# Altium integrated library TI_Logic_Gate.IntLib: 2017 symbols (part 12 of 56)
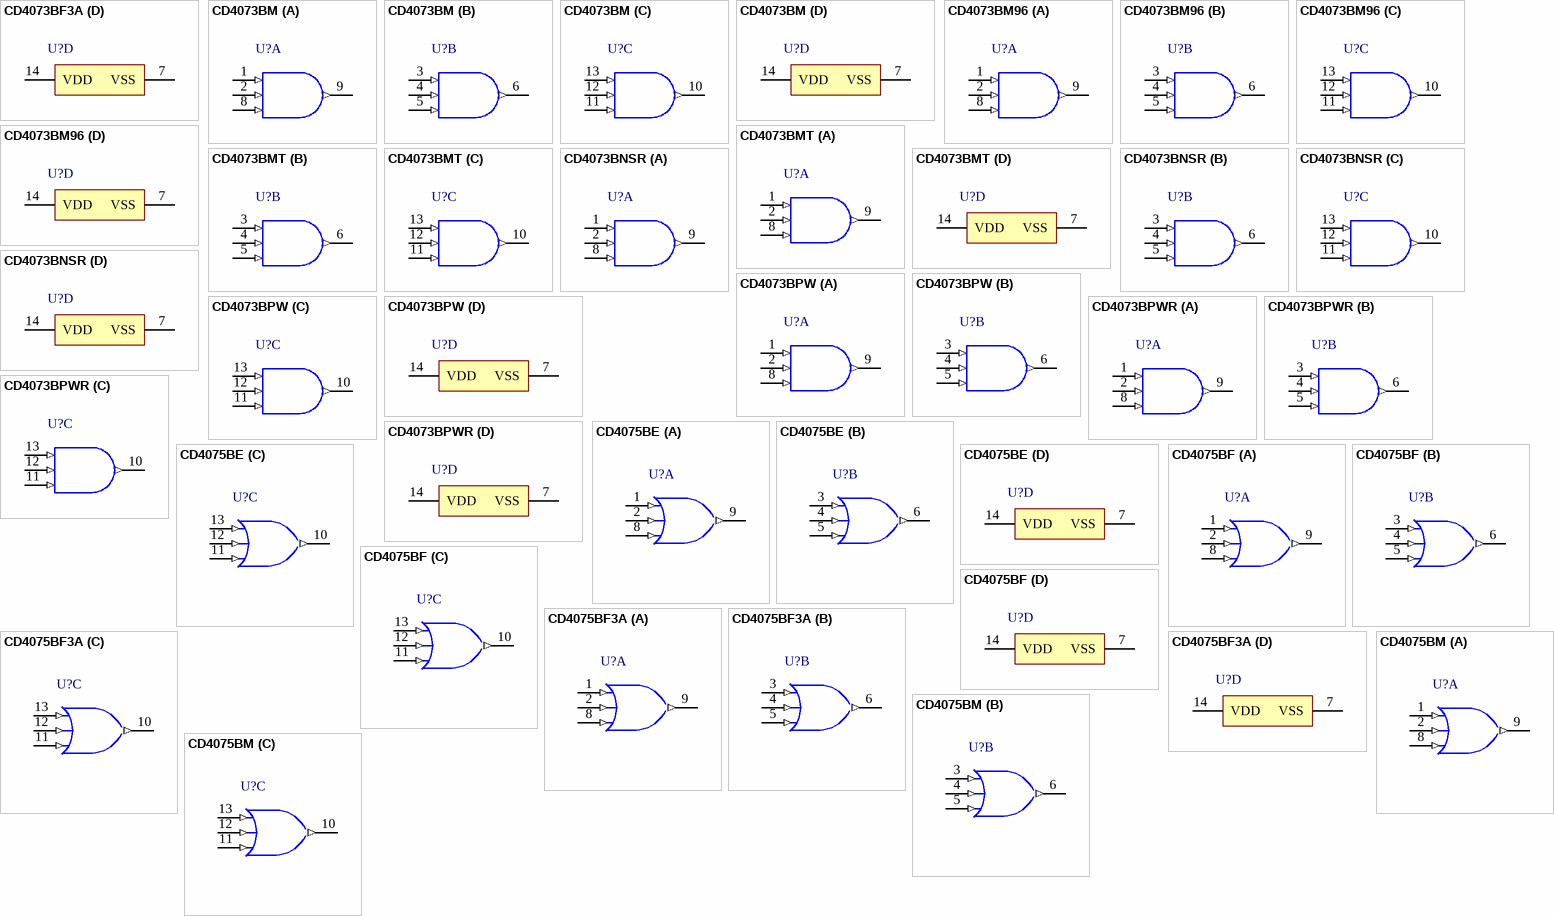
[diagram p236: symbols CD4073BF3A to CD4075BM]

## CD4073BPW
designator U?
CMOS Triple 3-Input AND Gate, PW0014A, TUBE; Generic Part Number: CD4073B; Manufacturer: Texas Instruments; PartNumber: CD4073BPW; VCC(Max)(V): 18; VCC(Min)(V): 3; ICC @ Nom Voltage(Max)(mA): 0.025; F @ Nom Voltage(Max)(Mhz): 8; Rating: Catalog; Technology Family: CD4000; Voltage(Nom)(V): 10; Schmitt Trigger: No; tpd @ Nom Voltage(Max)(ns): 120; DatasheetVersion: SCHS057C; PackageReference: PW0014A; Supplier 1: Mouser; Supplier Part Number 1: 595-CD4073BPW; Supplier 2: Digi-Key; Supplier Part Number 2: 296-32908-5-ND; Output Type: CMOS; Input Type: CMOS; Bits(#): 3; Operating Temperature Range(C): -55 to 125; ComponentLink1Description: Manufacturer URL; ComponentLink1URL: http://www.ti.com/; ComponentLink2Description: Datasheet; ComponentLink2URL: http://www.ti.com/lit/ds/symlink/cd4073b.pdf
footprint PW0014A_N (SOP, 14-Leads, Body 5.1x4.5mm, Pitch 0.65mm, IPC Medium Density)
footprint PW0014A_M (SOP, 14-Leads, Body 5.1x4.5mm, Pitch 0.65mm, IPC Low Density)
footprint PW0014A_L (SOP, 14-Leads, Body 5.1x4.5mm, Pitch 0.65mm, IPC High Density)
part A pins: 1 A (in), 2 B (in), 8 C (in), 9 J (out)
part B pins: 3 D (in), 4 E (in), 5 F (in), 6 K (out)
part C pins: 10 L (out), 11 I (in), 12 H (in), 13 G (in)
part D pins: 7 VSS (power), 14 VDD (power)

## CD4073BPWR
designator U?
CMOS Triple 3-Input AND Gate, PW0014A, LARGE T&R; Generic Part Number: CD4073B; Manufacturer: Texas Instruments; PartNumber: CD4073BPWR; VCC(Max)(V): 18; VCC(Min)(V): 3; ICC @ Nom Voltage(Max)(mA): 0.025; F @ Nom Voltage(Max)(Mhz): 8; Rating: Catalog; Technology Family: CD4000; Voltage(Nom)(V): 10; Schmitt Trigger: No; tpd @ Nom Voltage(Max)(ns): 120; DatasheetVersion: SCHS057C; PackageReference: PW0014A; Supplier 1: Mouser; Supplier Part Number 1: 595-CD4073BPWR; Supplier 2: Digi-Key; Supplier Part Number 2: 296-14134-2-ND; Supplier 3: Digi-Key; Supplier Part Number 3: 296-14134-1-ND; Supplier 4: Digi-Key; Supplier Part Number 4: 296-14134-6-ND; Output Type: CMOS; Input Type: CMOS; Bits(#): 3; Operating Temperature Range(C): -55 to 125; ComponentLink1Description: Manufacturer URL; ComponentLink1URL: http://www.ti.com/; ComponentLink2Description: Datasheet; ComponentLink2URL: http://www.ti.com/lit/ds/symlink/cd4073b.pdf
footprint PW0014A_N (SOP, 14-Leads, Body 5.1x4.5mm, Pitch 0.65mm, IPC Medium Density)
footprint PW0014A_M (SOP, 14-Leads, Body 5.1x4.5mm, Pitch 0.65mm, IPC Low Density)
footprint PW0014A_L (SOP, 14-Leads, Body 5.1x4.5mm, Pitch 0.65mm, IPC High Density)
part A pins: 1 A (in), 2 B (in), 8 C (in), 9 J (out)
part B pins: 3 D (in), 4 E (in), 5 F (in), 6 K (out)
part C pins: 10 L (out), 11 I (in), 12 H (in), 13 G (in)
part D pins: 7 VSS (power), 14 VDD (power)

## CD4075BE
designator U?
CMOS Triple 3-Input OR Gate, N0014A, TUBE; Generic Part Number: CD4075B; Manufacturer: Texas Instruments; PartNumber: CD4075BE; VCC(Min)(V): 3; VCC(Max)(V): 18; ICC @ Nom Voltage(Max)(mA): 0.015; F @ Nom Voltage(Max)(Mhz): 8; Rating: Catalog; Voltage(Nom)(V): 10; Output Drive (IOL/IOH)(Max)(mA): 1.5/-1.5; tpd @ Nom Voltage(Max)(ns): 120; DatasheetVersion: SCHS056D; PackageReference: N0014A; Output Type: CMOS; Input Type: CMOS; Bits(#): 3; Operating Temperature Range(C): -55 to 125; Code_JEDEC: MS-001; ComponentLink1Description: Manufacturer URL; ComponentLink1URL: http://www.ti.com/; ComponentLink2Description: Datasheet; ComponentLink2URL: http://www.ti.com/lit/ds/symlink/cd4075b.pdf; ComponentLink3Description: Package Specification; ComponentLink3URL: http://www.ti.com/lit/ml/mpdi002c/mpdi002c.pdf
footprint N0014A (DIP, 14-Leads, Body 19.7x6.6mm, Pitch 2.54mm)
part A pins: 1 A (in), 2 B (in), 8 C (in), 9 J (out)
part B pins: 3 D (in), 4 E (in), 5 F (in), 6 K (out)
part C pins: 10 L (out), 11 I (in), 12 H (in), 13 G (in)
part D pins: 7 VSS (power), 14 VDD (power)

## CD4075BF
designator U?
CMOS Triple 3-Input OR Gate, J0014A, TUBE; Generic Part Number: CD4075B-MIL; Manufacturer: Texas Instruments; PartNumber: CD4075BF; VCC(Min)(V): 3; VCC(Max)(V): 18; ICC @ Nom Voltage(Max)(mA): 0.015; F @ Nom Voltage(Max)(Mhz): 8; Rating: Military; Voltage(Nom)(V): 10; Output Drive (IOL/IOH)(Max)(mA): 1.5/-1.5; tpd @ Nom Voltage(Max)(ns): 250; DatasheetVersion: SCHS056D; PackageReference: J0014A; Output Type: CMOS; Input Type: CMOS; Bits(#): 3; Operating Temperature Range(C): -55 to 125; ComponentLink1Description: Manufacturer URL; ComponentLink1URL: http://www.ti.com/; ComponentLink2Description: Datasheet; ComponentLink2URL: http://www.ti.com/lit/ds/symlink/cd4075b-mil.pdf; ComponentLink3Description: Package Specification; ComponentLink3URL: http://www.ti.com/lit/ml/mcer002d/mcer002d.pdf
footprint J0014A (DIP, 14-Leads, Body 19.95x7.2mm, Pitch 2.54mm)
part A pins: 1 A (in), 2 B (in), 8 C (in), 9 J (out)
part B pins: 3 D (in), 4 E (in), 5 F (in), 6 K (out)
part C pins: 10 L (out), 11 I (in), 12 H (in), 13 G (in)
part D pins: 7 VSS (power), 14 VDD (power)

## CD4075BF3A
designator U?
CMOS Triple 3-Input OR Gate, J0014A, TUBE; Generic Part Number: CD4075B-MIL; Manufacturer: Texas Instruments; PartNumber: CD4075BF3A; VCC(Min)(V): 3; VCC(Max)(V): 18; ICC @ Nom Voltage(Max)(mA): 0.015; F @ Nom Voltage(Max)(Mhz): 8; Rating: Military; Voltage(Nom)(V): 10; Output Drive (IOL/IOH)(Max)(mA): 1.5/-1.5; tpd @ Nom Voltage(Max)(ns): 250; DatasheetVersion: SCHS056D; PackageReference: J0014A; Output Type: CMOS; Input Type: CMOS; Bits(#): 3; Operating Temperature Range(C): -55 to 125; ComponentLink1Description: Manufacturer URL; ComponentLink1URL: http://www.ti.com/; ComponentLink2Description: Datasheet; ComponentLink2URL: http://www.ti.com/lit/ds/symlink/cd4075b-mil.pdf; ComponentLink3Description: Package Specification; ComponentLink3URL: http://www.ti.com/lit/ml/mcer002d/mcer002d.pdf
footprint J0014A (DIP, 14-Leads, Body 19.95x7.2mm, Pitch 2.54mm)
part A pins: 1 A (in), 2 B (in), 8 C (in), 9 J (out)
part B pins: 3 D (in), 4 E (in), 5 F (in), 6 K (out)
part C pins: 10 L (out), 11 I (in), 12 H (in), 13 G (in)
part D pins: 7 VSS (power), 14 VDD (power)

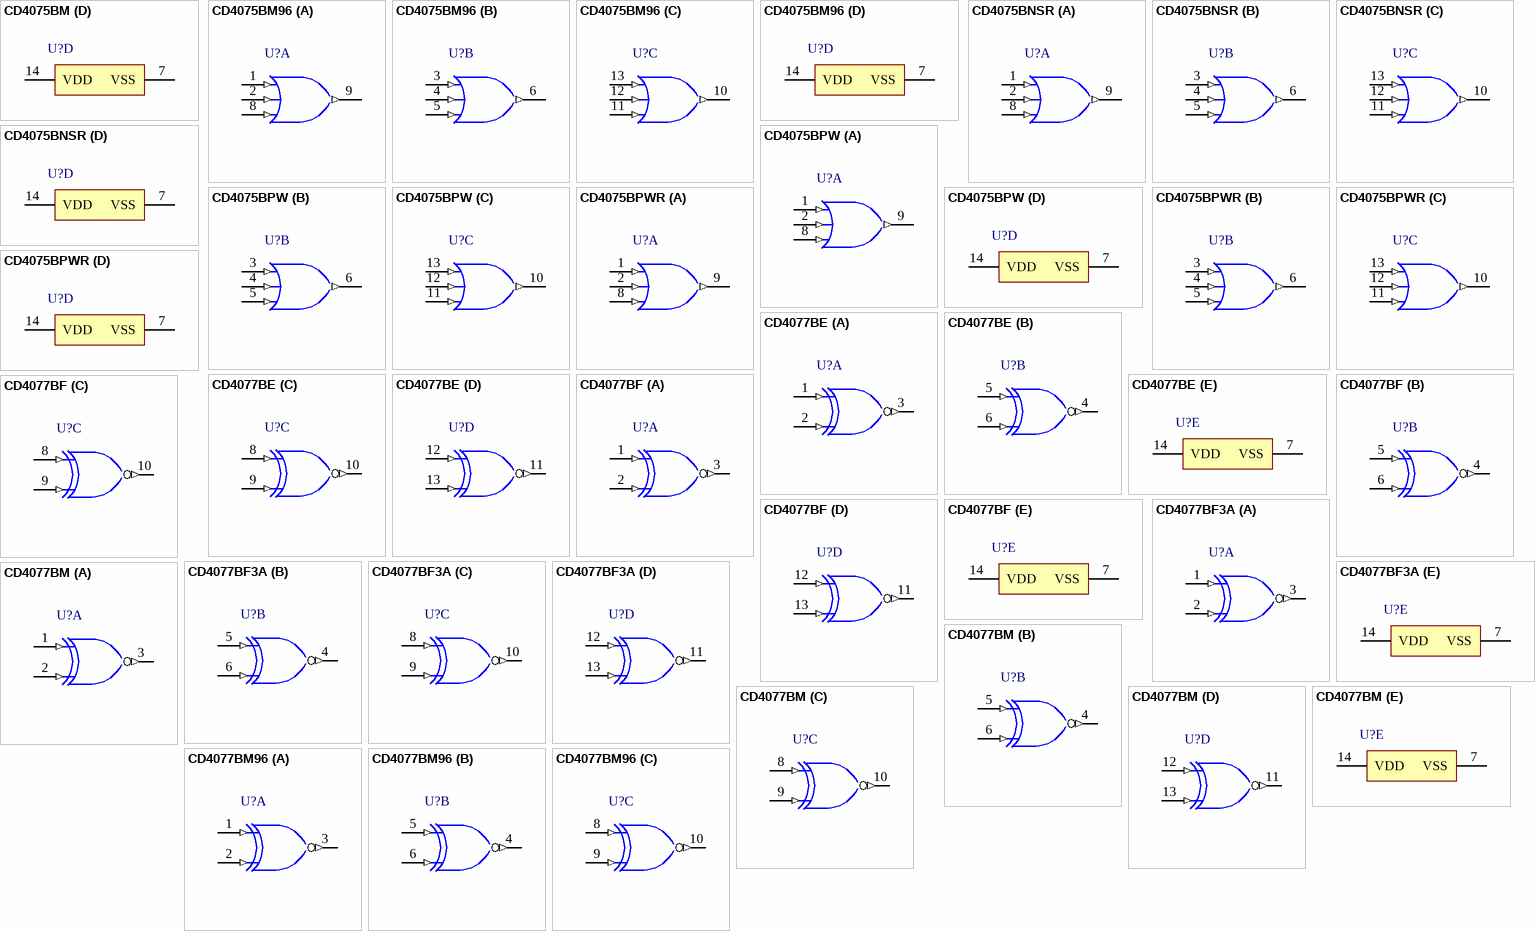
[diagram p44: symbols CD4075BM to CD4077BM96]

## CD4075BM
designator U?
CMOS Triple 3-Input OR Gate, D0014A, TUBE; Generic Part Number: CD4075B; Manufacturer: Texas Instruments; PartNumber: CD4075BM; VCC(Min)(V): 3; VCC(Max)(V): 18; ICC @ Nom Voltage(Max)(mA): 0.015; F @ Nom Voltage(Max)(Mhz): 8; Rating: Catalog; Voltage(Nom)(V): 10; Output Drive (IOL/IOH)(Max)(mA): 1.5/-1.5; tpd @ Nom Voltage(Max)(ns): 120; DatasheetVersion: SCHS056D; PackageReference: D0014A; Output Type: CMOS; Input Type: CMOS; Bits(#): 3; Operating Temperature Range(C): -55 to 125; Code_JEDEC: MS-012; ComponentLink1Description: Manufacturer URL; ComponentLink1URL: http://www.ti.com/; ComponentLink2Description: Datasheet; ComponentLink2URL: http://www.ti.com/lit/ds/symlink/cd4075b.pdf; ComponentLink3Description: Package Specification; ComponentLink3URL: http://www.ti.com/lit/ml/mpds177g/mpds177g.pdf
footprint D0014A_N (SOIC, 14-Leads, Body 8.75x4mm, Pitch 1.27mm, IPC Medium Density)
footprint D0014A_M (SOIC, 14-Leads, Body 8.75x4mm, Pitch 1.27mm, IPC Low Density)
footprint D0014A_L (SOIC, 14-Leads, Body 8.75x4mm, Pitch 1.27mm, IPC High Density)
part A pins: 1 A (in), 2 B (in), 8 C (in), 9 J (out)
part B pins: 3 D (in), 4 E (in), 5 F (in), 6 K (out)
part C pins: 10 L (out), 11 I (in), 12 H (in), 13 G (in)
part D pins: 7 VSS (power), 14 VDD (power)

## CD4075BM96
designator U?
CMOS Triple 3-Input OR Gate, D0014A, LARGE T&R; Generic Part Number: CD4075B; Manufacturer: Texas Instruments; PartNumber: CD4075BM96; VCC(Min)(V): 3; VCC(Max)(V): 18; ICC @ Nom Voltage(Max)(mA): 0.015; F @ Nom Voltage(Max)(Mhz): 8; Rating: Catalog; Voltage(Nom)(V): 10; Output Drive (IOL/IOH)(Max)(mA): 1.5/-1.5; tpd @ Nom Voltage(Max)(ns): 120; DatasheetVersion: SCHS056D; PackageReference: D0014A; Output Type: CMOS; Input Type: CMOS; Bits(#): 3; Operating Temperature Range(C): -55 to 125; Code_JEDEC: MS-012; ComponentLink1Description: Manufacturer URL; ComponentLink1URL: http://www.ti.com/; ComponentLink2Description: Datasheet; ComponentLink2URL: http://www.ti.com/lit/ds/symlink/cd4075b.pdf; ComponentLink3Description: Package Specification; ComponentLink3URL: http://www.ti.com/lit/ml/mpds177g/mpds177g.pdf
footprint D0014A_N (SOIC, 14-Leads, Body 8.75x4mm, Pitch 1.27mm, IPC Medium Density)
footprint D0014A_M (SOIC, 14-Leads, Body 8.75x4mm, Pitch 1.27mm, IPC Low Density)
footprint D0014A_L (SOIC, 14-Leads, Body 8.75x4mm, Pitch 1.27mm, IPC High Density)
part A pins: 1 A (in), 2 B (in), 8 C (in), 9 J (out)
part B pins: 3 D (in), 4 E (in), 5 F (in), 6 K (out)
part C pins: 10 L (out), 11 I (in), 12 H (in), 13 G (in)
part D pins: 7 VSS (power), 14 VDD (power)

## CD4075BNSR
designator U?
CMOS Triple 3-Input OR Gate, NS0014A, LARGE T&R; Generic Part Number: CD4075B; Manufacturer: Texas Instruments; PartNumber: CD4075BNSR; VCC(Min)(V): 3; VCC(Max)(V): 18; ICC @ Nom Voltage(Max)(mA): 0.015; F @ Nom Voltage(Max)(Mhz): 8; Rating: Catalog; Voltage(Nom)(V): 10; Output Drive (IOL/IOH)(Max)(mA): 1.5/-1.5; tpd @ Nom Voltage(Max)(ns): 120; DatasheetVersion: SCHS056D; PackageReference: NS0014A; Output Type: CMOS; Input Type: CMOS; Bits(#): 3; Operating Temperature Range(C): -55 to 125; ComponentLink1Description: Manufacturer URL; ComponentLink1URL: http://www.ti.com/; ComponentLink2Description: Datasheet; ComponentLink2URL: http://www.ti.com/lit/ds/symlink/cd4075b.pdf; ComponentLink3Description: Package Specification; ComponentLink3URL: http://www.ti.com/lit/ml/msop002a/msop002a.pdf
footprint NS0014A_N (SOIC,14-Leads,Body 10.5x5.6mm,Pitch 1.27mm,IPC Medium Density)
footprint NS0014A_M (SOIC,14-Leads,Body 10.5x5.6mm,Pitch 1.27mm,IPC Low Density)
footprint NS0014A_L (SOIC,14-Leads,Body 10.5x5.6mm,Pitch 0.4mm,IPC High Density)
part A pins: 1 A (in), 2 B (in), 8 C (in), 9 J (out)
part B pins: 3 D (in), 4 E (in), 5 F (in), 6 K (out)
part C pins: 10 L (out), 11 I (in), 12 H (in), 13 G (in)
part D pins: 7 VSS (power), 14 VDD (power)

## CD4075BPW
designator U?
CMOS Triple 3-Input OR Gate, PW0014A, TUBE; Generic Part Number: CD4075B; Manufacturer: Texas Instruments; PartNumber: CD4075BPW; VCC(Min)(V): 3; VCC(Max)(V): 18; ICC @ Nom Voltage(Max)(mA): 0.015; F @ Nom Voltage(Max)(Mhz): 8; Rating: Catalog; Voltage(Nom)(V): 10; Output Drive (IOL/IOH)(Max)(mA): 1.5/-1.5; tpd @ Nom Voltage(Max)(ns): 120; DatasheetVersion: SCHS056D; PackageReference: PW0014A; Output Type: CMOS; Input Type: CMOS; Bits(#): 3; Operating Temperature Range(C): -55 to 125; Code_JEDEC: MO-153; ComponentLink1Description: Manufacturer URL; ComponentLink1URL: http://www.ti.com/; ComponentLink2Description: Datasheet; ComponentLink2URL: http://www.ti.com/lit/ds/symlink/cd4075b.pdf; ComponentLink3Description: Package Specification; ComponentLink3URL: http://www.ti.com/lit/ml/mpds360/mpds360.pdf
footprint PW0014A_N (SOP, 14-Leads, Body 5.1x4.5mm, Pitch 0.65mm, IPC Medium Density)
footprint PW0014A_M (SOP, 14-Leads, Body 5.1x4.5mm, Pitch 0.65mm, IPC Low Density)
footprint PW0014A_L (SOP, 14-Leads, Body 5.1x4.5mm, Pitch 0.65mm, IPC High Density)
part A pins: 1 A (in), 2 B (in), 8 C (in), 9 J (out)
part B pins: 3 D (in), 4 E (in), 5 F (in), 6 K (out)
part C pins: 10 L (out), 11 I (in), 12 H (in), 13 G (in)
part D pins: 7 VSS (power), 14 VDD (power)

## CD4075BPWR
designator U?
CMOS Triple 3-Input OR Gate, PW0014A, LARGE T&R; Generic Part Number: CD4075B; Manufacturer: Texas Instruments; PartNumber: CD4075BPWR; VCC(Min)(V): 3; VCC(Max)(V): 18; ICC @ Nom Voltage(Max)(mA): 0.015; F @ Nom Voltage(Max)(Mhz): 8; Rating: Catalog; Voltage(Nom)(V): 10; Output Drive (IOL/IOH)(Max)(mA): 1.5/-1.5; tpd @ Nom Voltage(Max)(ns): 120; DatasheetVersion: SCHS056D; PackageReference: PW0014A; Output Type: CMOS; Input Type: CMOS; Bits(#): 3; Operating Temperature Range(C): -55 to 125; Code_JEDEC: MO-153; ComponentLink1Description: Manufacturer URL; ComponentLink1URL: http://www.ti.com/; ComponentLink2Description: Datasheet; ComponentLink2URL: http://www.ti.com/lit/ds/symlink/cd4075b.pdf; ComponentLink3Description: Package Specification; ComponentLink3URL: http://www.ti.com/lit/ml/mpds360/mpds360.pdf
footprint PW0014A_N (SOP, 14-Leads, Body 5.1x4.5mm, Pitch 0.65mm, IPC Medium Density)
footprint PW0014A_M (SOP, 14-Leads, Body 5.1x4.5mm, Pitch 0.65mm, IPC Low Density)
footprint PW0014A_L (SOP, 14-Leads, Body 5.1x4.5mm, Pitch 0.65mm, IPC High Density)
part A pins: 1 A (in), 2 B (in), 8 C (in), 9 J (out)
part B pins: 3 D (in), 4 E (in), 5 F (in), 6 K (out)
part C pins: 10 L (out), 11 I (in), 12 H (in), 13 G (in)
part D pins: 7 VSS (power), 14 VDD (power)

## CD4077BE
designator U?
CMOS Quad Exclusive-NOR Gate, N0014A, TUBE; Generic Part Number: CD4077B; Manufacturer: Texas Instruments; PartNumber: CD4077BE; VCC(Max)(V): 18; VCC(Min)(V): 3; Output Drive(mA): -6.8/6.8; ICC @ Nom Voltage(Max)(mA): 0.015; Bits(#): 4; F @ Nom Voltage(Max)(Mhz): 9; Rating: Catalog; Technology Family: CD4000; Voltage(Nom)(V): 10; Schmitt Trigger: No; tpd @ Nom Voltage(Max)(ns): 130; DatasheetVersion: SCHS055E; PackageReference: N0014A; Supplier 1: Mouser; Supplier Part Number 1: 595-CD4077BE; Supplier 2: Digi-Key; Supplier Part Number 2: 296-13771-5-ND; Output Type: CMOS; Input Type: CMOS; Operating Temperature Range(C): -55 to 125; Output Drive (IOL/IOH)(Max)(mA): -6.8/6.8; ComponentLink1Description: Manufacturer URL; ComponentLink1URL: http://www.ti.com/; ComponentLink2Description: Datasheet; ComponentLink2URL: http://www.ti.com/lit/ds/symlink/cd4077b.pdf
footprint N0014A (DIP, 14-Leads, Body 19.7x6.6mm, Pitch 2.54mm)
part A pins: 1 A (in), 2 B (in), 3 J (out)
part B pins: 4 K (out), 5 C (in), 6 D (in)
part C pins: 8 E (in), 9 F (in), 10 L (out)
part D pins: 11 M (out), 12 G (in), 13 H (in)
part E pins: 7 VSS (power), 14 VDD (power)

## CD4077BF
designator U?
CMOS Quad Exclusive-NOR Gate, J0014A, TUBE; Generic Part Number: CD4077B-MIL; Manufacturer: Texas Instruments; PartNumber: CD4077BF; VCC(Max)(V): 18; VCC(Min)(V): 3; Output Drive(mA): -6.8/6.8; ICC @ Nom Voltage(Max)(mA): 0.015; Bits(#): 4; F @ Nom Voltage(Max)(Mhz): 9; Rating: Military; Technology Family: CD4000; Voltage(Nom)(V): 10; Schmitt Trigger: No; tpd @ Nom Voltage(Max)(ns): 130; DatasheetVersion: SCHS055E; PackageReference: J0014A; Output Type: CMOS; Input Type: CMOS; Operating Temperature Range(C): -55 to 125; ComponentLink1Description: Manufacturer URL; ComponentLink1URL: http://www.ti.com/; ComponentLink2Description: Datasheet; ComponentLink2URL: http://www.ti.com/lit/ds/symlink/cd4077b-mil.pdf
footprint J0014A (DIP, 14-Leads, Body 19.95x7.2mm, Pitch 2.54mm)
part A pins: 1 A (in), 2 B (in), 3 J (out)
part B pins: 4 K (out), 5 C (in), 6 D (in)
part C pins: 8 E (in), 9 F (in), 10 L (out)
part D pins: 11 M (out), 12 G (in), 13 H (in)
part E pins: 7 VSS (power), 14 VDD (power)

## CD4077BF3A
designator U?
CMOS Quad Exclusive-NOR Gate, J0014A, TUBE; Generic Part Number: CD4077B-MIL; Manufacturer: Texas Instruments; PartNumber: CD4077BF3A; VCC(Max)(V): 18; VCC(Min)(V): 3; Output Drive(mA): -6.8/6.8; ICC @ Nom Voltage(Max)(mA): 0.015; Bits(#): 4; F @ Nom Voltage(Max)(Mhz): 9; Rating: Military; Technology Family: CD4000; Voltage(Nom)(V): 10; Schmitt Trigger: No; tpd @ Nom Voltage(Max)(ns): 130; DatasheetVersion: SCHS055E; PackageReference: J0014A; Output Type: CMOS; Input Type: CMOS; Operating Temperature Range(C): -55 to 125; ComponentLink1Description: Manufacturer URL; ComponentLink1URL: http://www.ti.com/; ComponentLink2Description: Datasheet; ComponentLink2URL: http://www.ti.com/lit/ds/symlink/cd4077b-mil.pdf
footprint J0014A (DIP, 14-Leads, Body 19.95x7.2mm, Pitch 2.54mm)
part A pins: 1 A (in), 2 B (in), 3 J (out)
part B pins: 4 K (out), 5 C (in), 6 D (in)
part C pins: 8 E (in), 9 F (in), 10 L (out)
part D pins: 11 M (out), 12 G (in), 13 H (in)
part E pins: 7 VSS (power), 14 VDD (power)

## CD4077BM
designator U?
CMOS Quad Exclusive-NOR Gate, D0014A, TUBE; Generic Part Number: CD4077B; Manufacturer: Texas Instruments; PartNumber: CD4077BM; VCC(Max)(V): 18; VCC(Min)(V): 3; Output Drive(mA): -6.8/6.8; ICC @ Nom Voltage(Max)(mA): 0.015; Bits(#): 4; F @ Nom Voltage(Max)(Mhz): 9; Rating: Catalog; Technology Family: CD4000; Voltage(Nom)(V): 10; Schmitt Trigger: No; tpd @ Nom Voltage(Max)(ns): 130; DatasheetVersion: SCHS055E; PackageReference: D0014A; Supplier 1: Mouser; Supplier Part Number 1: 595-CD4077BM; Supplier 2: Digi-Key; Supplier Part Number 2: 296-9406-5-ND; Output Type: CMOS; Input Type: CMOS; Operating Temperature Range(C): -55 to 125; Output Drive (IOL/IOH)(Max)(mA): -6.8/6.8; ComponentLink1Description: Manufacturer URL; ComponentLink1URL: http://www.ti.com/; ComponentLink2Description: Datasheet; ComponentLink2URL: http://www.ti.com/lit/ds/symlink/cd4077b.pdf
footprint D0014A_N (SOIC, 14-Leads, Body 8.75x4mm, Pitch 1.27mm, IPC Medium Density)
footprint D0014A_M (SOIC, 14-Leads, Body 8.75x4mm, Pitch 1.27mm, IPC Low Density)
footprint D0014A_L (SOIC, 14-Leads, Body 8.75x4mm, Pitch 1.27mm, IPC High Density)
part A pins: 1 A (in), 2 B (in), 3 J (out)
part B pins: 4 K (out), 5 C (in), 6 D (in)
part C pins: 8 E (in), 9 F (in), 10 L (out)
part D pins: 11 M (out), 12 G (in), 13 H (in)
part E pins: 7 VSS (power), 14 VDD (power)

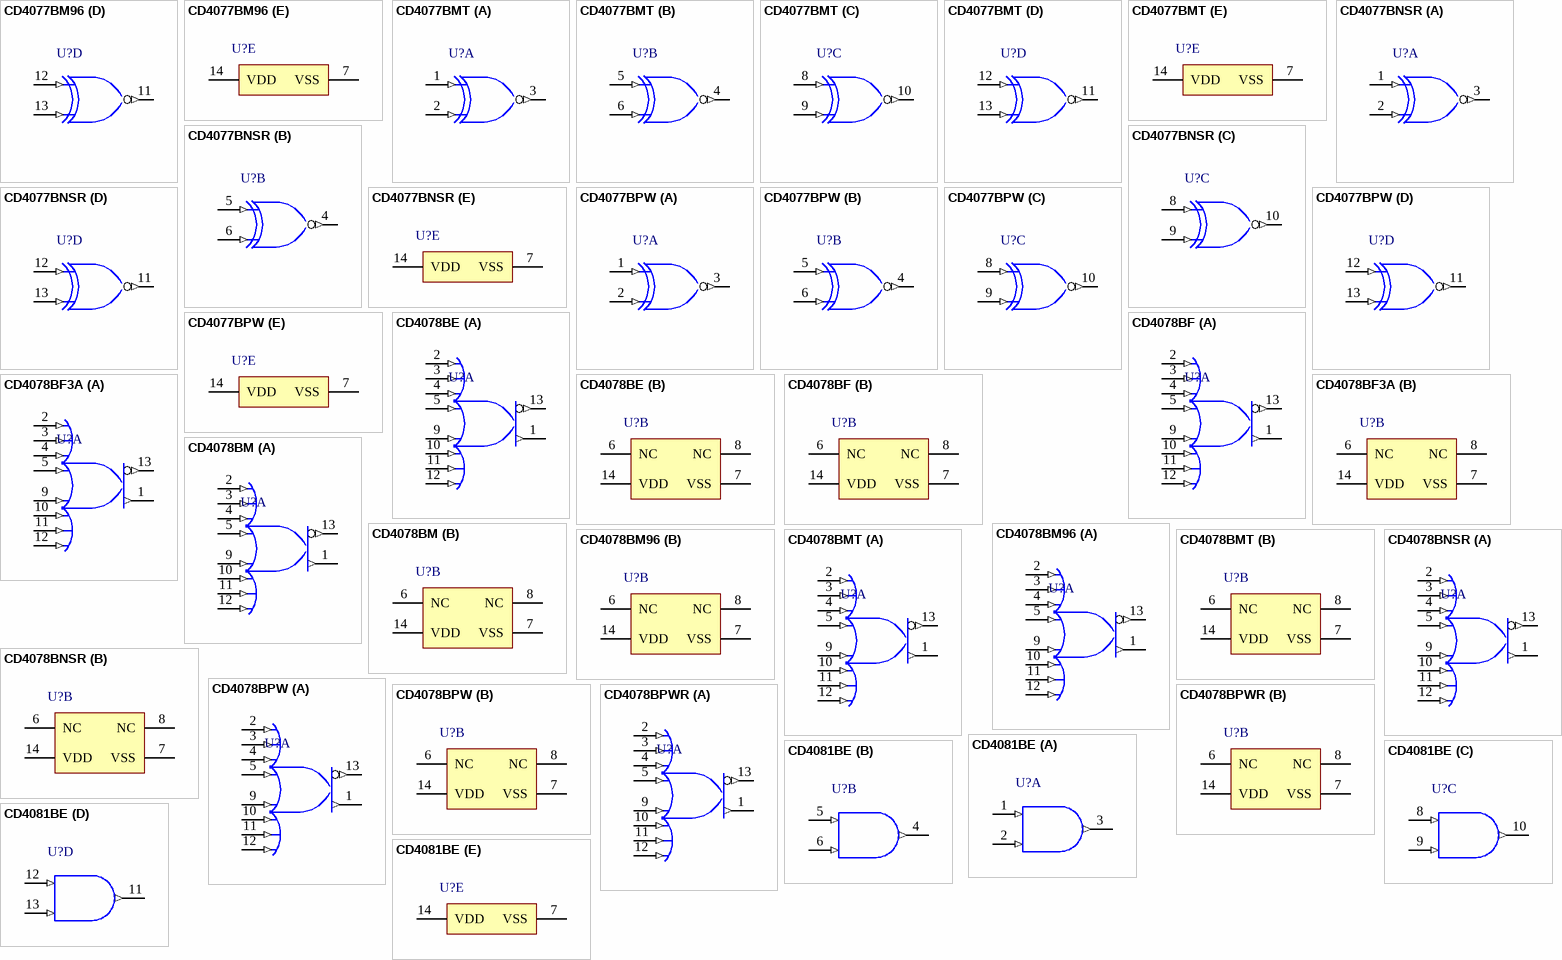
[diagram p45: symbols CD4077BM96 to CD4081BE]

## CD4077BM96
designator U?
CMOS Quad Exclusive-NOR Gate, D0014A, LARGE T&R; Generic Part Number: CD4077B; Manufacturer: Texas Instruments; PartNumber: CD4077BM96; VCC(Max)(V): 18; VCC(Min)(V): 3; Output Drive(mA): -6.8/6.8; ICC @ Nom Voltage(Max)(mA): 0.015; Bits(#): 4; F @ Nom Voltage(Max)(Mhz): 9; Rating: Catalog; Technology Family: CD4000; Voltage(Nom)(V): 10; Schmitt Trigger: No; tpd @ Nom Voltage(Max)(ns): 130; DatasheetVersion: SCHS055E; PackageReference: D0014A; Supplier 1: Mouser; Supplier Part Number 1: 595-CD4077BM96; Supplier 2: Digi-Key; Supplier Part Number 2: 296-31521-2-ND; Supplier 3: Digi-Key; Supplier Part Number 3: 296-31521-1-ND; Supplier 4: Digi-Key; Supplier Part Number 4: 296-31521-6-ND; Output Type: CMOS; Input Type: CMOS; Operating Temperature Range(C): -55 to 125; Output Drive (IOL/IOH)(Max)(mA): -6.8/6.8; ComponentLink1Description: Manufacturer URL; ComponentLink1URL: http://www.ti.com/; ComponentLink2Description: Datasheet; ComponentLink2URL: http://www.ti.com/lit/ds/symlink/cd4077b.pdf
footprint D0014A_N (SOIC, 14-Leads, Body 8.75x4mm, Pitch 1.27mm, IPC Medium Density)
footprint D0014A_M (SOIC, 14-Leads, Body 8.75x4mm, Pitch 1.27mm, IPC Low Density)
footprint D0014A_L (SOIC, 14-Leads, Body 8.75x4mm, Pitch 1.27mm, IPC High Density)
part A pins: 1 A (in), 2 B (in), 3 J (out)
part B pins: 4 K (out), 5 C (in), 6 D (in)
part C pins: 8 E (in), 9 F (in), 10 L (out)
part D pins: 11 M (out), 12 G (in), 13 H (in)
part E pins: 7 VSS (power), 14 VDD (power)

## CD4077BMT
designator U?
CMOS Quad Exclusive-NOR Gate, D0014A, SMALL T&R; Generic Part Number: CD4077B; Manufacturer: Texas Instruments; PartNumber: CD4077BMT; VCC(Max)(V): 18; VCC(Min)(V): 3; Output Drive(mA): -6.8/6.8; ICC @ Nom Voltage(Max)(mA): 0.015; Bits(#): 4; F @ Nom Voltage(Max)(Mhz): 9; Rating: Catalog; Technology Family: CD4000; Voltage(Nom)(V): 10; Schmitt Trigger: No; tpd @ Nom Voltage(Max)(ns): 130; DatasheetVersion: SCHS055E; PackageReference: D0014A; Supplier 1: Mouser; Supplier Part Number 1: 595-CD4077BMT; Supplier 2: Digi-Key; Supplier Part Number 2: CD4077BMT-ND; Output Type: CMOS; Input Type: CMOS; Operating Temperature Range(C): -55 to 125; Output Drive (IOL/IOH)(Max)(mA): -6.8/6.8; ComponentLink1Description: Manufacturer URL; ComponentLink1URL: http://www.ti.com/; ComponentLink2Description: Datasheet; ComponentLink2URL: http://www.ti.com/lit/ds/symlink/cd4077b.pdf
footprint D0014A_N (SOIC, 14-Leads, Body 8.75x4mm, Pitch 1.27mm, IPC Medium Density)
footprint D0014A_M (SOIC, 14-Leads, Body 8.75x4mm, Pitch 1.27mm, IPC Low Density)
footprint D0014A_L (SOIC, 14-Leads, Body 8.75x4mm, Pitch 1.27mm, IPC High Density)
part A pins: 1 A (in), 2 B (in), 3 J (out)
part B pins: 4 K (out), 5 C (in), 6 D (in)
part C pins: 8 E (in), 9 F (in), 10 L (out)
part D pins: 11 M (out), 12 G (in), 13 H (in)
part E pins: 7 VSS (power), 14 VDD (power)

## CD4077BNSR
designator U?
CMOS Quad Exclusive-NOR Gate, NS0014A, LARGE T&R; Generic Part Number: CD4077B; Manufacturer: Texas Instruments; PartNumber: CD4077BNSR; VCC(Max)(V): 18; VCC(Min)(V): 3; Output Drive(mA): -6.8/6.8; ICC @ Nom Voltage(Max)(mA): 0.015; Bits(#): 4; F @ Nom Voltage(Max)(Mhz): 9; Rating: Catalog; Technology Family: CD4000; Voltage(Nom)(V): 10; Schmitt Trigger: No; tpd @ Nom Voltage(Max)(ns): 130; DatasheetVersion: SCHS055E; PackageReference: NS0014A; Supplier 1: Mouser; Supplier Part Number 1: 595-CD4077BNSR; Supplier 2: Digi-Key; Supplier Part Number 2: 296-31522-2-ND; Supplier 3: Digi-Key; Supplier Part Number 3: 296-31522-1-ND; Supplier 4: Digi-Key; Supplier Part Number 4: 296-31522-6-ND; Output Type: CMOS; Input Type: CMOS; Operating Temperature Range(C): -55 to 125; Output Drive (IOL/IOH)(Max)(mA): -6.8/6.8; ComponentLink1Description: Manufacturer URL; ComponentLink1URL: http://www.ti.com/; ComponentLink2Description: Datasheet; ComponentLink2URL: http://www.ti.com/lit/ds/symlink/cd4077b.pdf
footprint NS0014A_N (SOIC,14-Leads,Body 10.5x5.6mm,Pitch 1.27mm,IPC Medium Density)
footprint NS0014A_M (SOIC,14-Leads,Body 10.5x5.6mm,Pitch 1.27mm,IPC Low Density)
footprint NS0014A_L (SOIC,14-Leads,Body 10.5x5.6mm,Pitch 0.4mm,IPC High Density)
part A pins: 1 A (in), 2 B (in), 3 J (out)
part B pins: 4 K (out), 5 C (in), 6 D (in)
part C pins: 8 E (in), 9 F (in), 10 L (out)
part D pins: 11 M (out), 12 G (in), 13 H (in)
part E pins: 7 VSS (power), 14 VDD (power)

## CD4077BPW
designator U?
CMOS Quad Exclusive-NOR Gate, PW0014A, TUBE; Generic Part Number: CD4077B; Manufacturer: Texas Instruments; PartNumber: CD4077BPW; VCC(Max)(V): 18; VCC(Min)(V): 3; Output Drive(mA): -6.8/6.8; ICC @ Nom Voltage(Max)(mA): 0.015; Bits(#): 4; F @ Nom Voltage(Max)(Mhz): 9; Rating: Catalog; Technology Family: CD4000; Voltage(Nom)(V): 10; Schmitt Trigger: No; tpd @ Nom Voltage(Max)(ns): 130; DatasheetVersion: SCHS055E; PackageReference: PW0014A; Supplier 1: Mouser; Supplier Part Number 1: 595-CD4077BPW; Supplier 2: Digi-Key; Supplier Part Number 2: CD4077BPW-ND; Output Type: CMOS; Input Type: CMOS; Operating Temperature Range(C): -55 to 125; Output Drive (IOL/IOH)(Max)(mA): -6.8/6.8; ComponentLink1Description: Manufacturer URL; ComponentLink1URL: http://www.ti.com/; ComponentLink2Description: Datasheet; ComponentLink2URL: http://www.ti.com/lit/ds/symlink/cd4077b.pdf
footprint PW0014A_N (SOP, 14-Leads, Body 5.1x4.5mm, Pitch 0.65mm, IPC Medium Density)
footprint PW0014A_M (SOP, 14-Leads, Body 5.1x4.5mm, Pitch 0.65mm, IPC Low Density)
footprint PW0014A_L (SOP, 14-Leads, Body 5.1x4.5mm, Pitch 0.65mm, IPC High Density)
part A pins: 1 A (in), 2 B (in), 3 J (out)
part B pins: 4 K (out), 5 C (in), 6 D (in)
part C pins: 8 E (in), 9 F (in), 10 L (out)
part D pins: 11 M (out), 12 G (in), 13 H (in)
part E pins: 7 VSS (power), 14 VDD (power)

## CD4078BE
designator U?
CMOS 8-Input NOR/OR Gate, N0014A, TUBE; Generic Part Number: CD4078B; Manufacturer: Texas Instruments; PartNumber: CD4078BE; VCC(Min)(V): 3; VCC(Max)(V): 18; Bits(#): 1; Rating: Catalog; tpd @ Nom Voltage(Max)(ns): 150; ICC @ Nom Voltage(Max)(mA): 0.015; F @ Nom Voltage(Max)(Mhz): 8; Voltage(Nom)(V): 10; Output Drive (IOL/IOH)(Max)(mA): 1.5/-1.5; DatasheetVersion: SCHS059C; PackageReference: N0014A; Output Type: CMOS; Input Type: CMOS; Operating Temperature Range(C): -55 to 125; Code_JEDEC: MS-001; ComponentLink1Description: Manufacturer URL; ComponentLink1URL: http://www.ti.com/; ComponentLink2Description: Datasheet; ComponentLink2URL: http://www.ti.com/lit/ds/symlink/cd4078b.pdf; ComponentLink3Description: Package Specification; ComponentLink3URL: http://www.ti.com/lit/ml/mpdi002c/mpdi002c.pdf
footprint N0014A (DIP, 14-Leads, Body 19.7x6.6mm, Pitch 2.54mm)
part A pins: 1 K (out), 2 A (in), 3 B (in), 4 C (in), 5 D (in), 9 E (in), 10 F (in), 11 G (in), 12 H (in), 13 J (out)
part B pins: 6 NC, 7 VSS (power), 8 NC, 14 VDD (power)

## CD4078BF
designator U?
CMOS 8-Input NOR/OR Gate, J0014A, TUBE; Generic Part Number: CD4078B-MIL; Manufacturer: Texas Instruments; PartNumber: CD4078BF; VCC(Min)(V): 3; VCC(Max)(V): 18; Bits(#): 1; Rating: Military; tpd @ Nom Voltage(Max)(ns): 300; ICC @ Nom Voltage(Max)(mA): 0.015; F @ Nom Voltage(Max)(Mhz): 8; Voltage(Nom)(V): 10; Output Drive (IOL/IOH)(Max)(mA): 1.5/-1.5; DatasheetVersion: SCHS059C; PackageReference: J0014A; Output Type: CMOS; Input Type: CMOS; Operating Temperature Range(C): -55 to 125; ComponentLink1Description: Manufacturer URL; ComponentLink1URL: http://www.ti.com/; ComponentLink2Description: Datasheet; ComponentLink2URL: http://www.ti.com/lit/ds/symlink/cd4078b-mil.pdf; ComponentLink3Description: Package Specification; ComponentLink3URL: http://www.ti.com/lit/ml/mcer002d/mcer002d.pdf
footprint J0014A (DIP, 14-Leads, Body 19.95x7.2mm, Pitch 2.54mm)
part A pins: 1 K (out), 2 A (in), 3 B (in), 4 C (in), 5 D (in), 9 E (in), 10 F (in), 11 G (in), 12 H (in), 13 J (out)
part B pins: 6 NC, 7 VSS (power), 8 NC, 14 VDD (power)

## CD4078BF3A
designator U?
CMOS 8-Input NOR/OR Gate, J0014A, TUBE; Generic Part Number: CD4078B-MIL; Manufacturer: Texas Instruments; PartNumber: CD4078BF3A; VCC(Min)(V): 3; VCC(Max)(V): 18; Bits(#): 1; Rating: Military; tpd @ Nom Voltage(Max)(ns): 300; ICC @ Nom Voltage(Max)(mA): 0.015; F @ Nom Voltage(Max)(Mhz): 8; Voltage(Nom)(V): 10; Output Drive (IOL/IOH)(Max)(mA): 1.5/-1.5; DatasheetVersion: SCHS059C; PackageReference: J0014A; Output Type: CMOS; Input Type: CMOS; Operating Temperature Range(C): -55 to 125; ComponentLink1Description: Manufacturer URL; ComponentLink1URL: http://www.ti.com/; ComponentLink2Description: Datasheet; ComponentLink2URL: http://www.ti.com/lit/ds/symlink/cd4078b-mil.pdf; ComponentLink3Description: Package Specification; ComponentLink3URL: http://www.ti.com/lit/ml/mcer002d/mcer002d.pdf
footprint J0014A (DIP, 14-Leads, Body 19.95x7.2mm, Pitch 2.54mm)
part A pins: 1 K (out), 2 A (in), 3 B (in), 4 C (in), 5 D (in), 9 E (in), 10 F (in), 11 G (in), 12 H (in), 13 J (out)
part B pins: 6 NC, 7 VSS (power), 8 NC, 14 VDD (power)

## CD4078BM
designator U?
CMOS 8-Input NOR/OR Gate, D0014A, TUBE; Generic Part Number: CD4078B; Manufacturer: Texas Instruments; PartNumber: CD4078BM; VCC(Min)(V): 3; VCC(Max)(V): 18; Bits(#): 1; Rating: Catalog; tpd @ Nom Voltage(Max)(ns): 150; ICC @ Nom Voltage(Max)(mA): 0.015; F @ Nom Voltage(Max)(Mhz): 8; Voltage(Nom)(V): 10; Output Drive (IOL/IOH)(Max)(mA): 1.5/-1.5; DatasheetVersion: SCHS059C; PackageReference: D0014A; Output Type: CMOS; Input Type: CMOS; Operating Temperature Range(C): -55 to 125; Code_JEDEC: MS-012; ComponentLink1Description: Manufacturer URL; ComponentLink1URL: http://www.ti.com/; ComponentLink2Description: Datasheet; ComponentLink2URL: http://www.ti.com/lit/ds/symlink/cd4078b.pdf; ComponentLink3Description: Package Specification; ComponentLink3URL: http://www.ti.com/lit/ml/mpds177g/mpds177g.pdf
footprint D0014A_N (SOIC, 14-Leads, Body 8.75x4mm, Pitch 1.27mm, IPC Medium Density)
footprint D0014A_M (SOIC, 14-Leads, Body 8.75x4mm, Pitch 1.27mm, IPC Low Density)
footprint D0014A_L (SOIC, 14-Leads, Body 8.75x4mm, Pitch 1.27mm, IPC High Density)
part A pins: 1 K (out), 2 A (in), 3 B (in), 4 C (in), 5 D (in), 9 E (in), 10 F (in), 11 G (in), 12 H (in), 13 J (out)
part B pins: 6 NC, 7 VSS (power), 8 NC, 14 VDD (power)

## CD4078BM96
designator U?
CMOS 8-Input NOR/OR Gate, D0014A, LARGE T&R; Generic Part Number: CD4078B; Manufacturer: Texas Instruments; PartNumber: CD4078BM96; VCC(Min)(V): 3; VCC(Max)(V): 18; Bits(#): 1; Rating: Catalog; tpd @ Nom Voltage(Max)(ns): 150; ICC @ Nom Voltage(Max)(mA): 0.015; F @ Nom Voltage(Max)(Mhz): 8; Voltage(Nom)(V): 10; Output Drive (IOL/IOH)(Max)(mA): 1.5/-1.5; DatasheetVersion: SCHS059C; PackageReference: D0014A; Output Type: CMOS; Input Type: CMOS; Operating Temperature Range(C): -55 to 125; Code_JEDEC: MS-012; ComponentLink1Description: Manufacturer URL; ComponentLink1URL: http://www.ti.com/; ComponentLink2Description: Datasheet; ComponentLink2URL: http://www.ti.com/lit/ds/symlink/cd4078b.pdf; ComponentLink3Description: Package Specification; ComponentLink3URL: http://www.ti.com/lit/ml/mpds177g/mpds177g.pdf
footprint D0014A_N (SOIC, 14-Leads, Body 8.75x4mm, Pitch 1.27mm, IPC Medium Density)
footprint D0014A_M (SOIC, 14-Leads, Body 8.75x4mm, Pitch 1.27mm, IPC Low Density)
footprint D0014A_L (SOIC, 14-Leads, Body 8.75x4mm, Pitch 1.27mm, IPC High Density)
part A pins: 1 K (out), 2 A (in), 3 B (in), 4 C (in), 5 D (in), 9 E (in), 10 F (in), 11 G (in), 12 H (in), 13 J (out)
part B pins: 6 NC, 7 VSS (power), 8 NC, 14 VDD (power)

## CD4078BMT
designator U?
CMOS 8-Input NOR/OR Gate, D0014A, SMALL T&R; Generic Part Number: CD4078B; Manufacturer: Texas Instruments; PartNumber: CD4078BMT; VCC(Min)(V): 3; VCC(Max)(V): 18; Bits(#): 1; Rating: Catalog; tpd @ Nom Voltage(Max)(ns): 150; ICC @ Nom Voltage(Max)(mA): 0.015; F @ Nom Voltage(Max)(Mhz): 8; Voltage(Nom)(V): 10; Output Drive (IOL/IOH)(Max)(mA): 1.5/-1.5; DatasheetVersion: SCHS059C; PackageReference: D0014A; Output Type: CMOS; Input Type: CMOS; Operating Temperature Range(C): -55 to 125; Code_JEDEC: MS-012; ComponentLink1Description: Manufacturer URL; ComponentLink1URL: http://www.ti.com/; ComponentLink2Description: Datasheet; ComponentLink2URL: http://www.ti.com/lit/ds/symlink/cd4078b.pdf; ComponentLink3Description: Package Specification; ComponentLink3URL: http://www.ti.com/lit/ml/mpds177g/mpds177g.pdf
footprint D0014A_N (SOIC, 14-Leads, Body 8.75x4mm, Pitch 1.27mm, IPC Medium Density)
footprint D0014A_M (SOIC, 14-Leads, Body 8.75x4mm, Pitch 1.27mm, IPC Low Density)
footprint D0014A_L (SOIC, 14-Leads, Body 8.75x4mm, Pitch 1.27mm, IPC High Density)
part A pins: 1 K (out), 2 A (in), 3 B (in), 4 C (in), 5 D (in), 9 E (in), 10 F (in), 11 G (in), 12 H (in), 13 J (out)
part B pins: 6 NC, 7 VSS (power), 8 NC, 14 VDD (power)

## CD4078BNSR
designator U?
CMOS 8-Input NOR/OR Gate, NS0014A, LARGE T&R; Generic Part Number: CD4078B; Manufacturer: Texas Instruments; PartNumber: CD4078BNSR; VCC(Min)(V): 3; VCC(Max)(V): 18; Bits(#): 1; Rating: Catalog; tpd @ Nom Voltage(Max)(ns): 150; ICC @ Nom Voltage(Max)(mA): 0.015; F @ Nom Voltage(Max)(Mhz): 8; Voltage(Nom)(V): 10; Output Drive (IOL/IOH)(Max)(mA): 1.5/-1.5; DatasheetVersion: SCHS059C; PackageReference: NS0014A; Output Type: CMOS; Input Type: CMOS; Operating Temperature Range(C): -55 to 125; ComponentLink1Description: Manufacturer URL; ComponentLink1URL: http://www.ti.com/; ComponentLink2Description: Datasheet; ComponentLink2URL: http://www.ti.com/lit/ds/symlink/cd4078b.pdf; ComponentLink3Description: Package Specification; ComponentLink3URL: http://www.ti.com/lit/ml/msop002a/msop002a.pdf
footprint NS0014A_N (SOIC,14-Leads,Body 10.5x5.6mm,Pitch 1.27mm,IPC Medium Density)
footprint NS0014A_M (SOIC,14-Leads,Body 10.5x5.6mm,Pitch 1.27mm,IPC Low Density)
footprint NS0014A_L (SOIC,14-Leads,Body 10.5x5.6mm,Pitch 0.4mm,IPC High Density)
part A pins: 1 K (out), 2 A (in), 3 B (in), 4 C (in), 5 D (in), 9 E (in), 10 F (in), 11 G (in), 12 H (in), 13 J (out)
part B pins: 6 NC, 7 VSS (power), 8 NC, 14 VDD (power)

## CD4078BPW
designator U?
CMOS 8-Input NOR/OR Gate, PW0014A, TUBE; Generic Part Number: CD4078B; Manufacturer: Texas Instruments; PartNumber: CD4078BPW; VCC(Min)(V): 3; VCC(Max)(V): 18; Bits(#): 1; Rating: Catalog; tpd @ Nom Voltage(Max)(ns): 150; ICC @ Nom Voltage(Max)(mA): 0.015; F @ Nom Voltage(Max)(Mhz): 8; Voltage(Nom)(V): 10; Output Drive (IOL/IOH)(Max)(mA): 1.5/-1.5; DatasheetVersion: SCHS059C; PackageReference: PW0014A; Output Type: CMOS; Input Type: CMOS; Operating Temperature Range(C): -55 to 125; Code_JEDEC: MO-153; ComponentLink1Description: Manufacturer URL; ComponentLink1URL: http://www.ti.com/; ComponentLink2Description: Datasheet; ComponentLink2URL: http://www.ti.com/lit/ds/symlink/cd4078b.pdf; ComponentLink3Description: Package Specification; ComponentLink3URL: http://www.ti.com/lit/ml/mpds360/mpds360.pdf
footprint PW0014A_N (SOP, 14-Leads, Body 5.1x4.5mm, Pitch 0.65mm, IPC Medium Density)
footprint PW0014A_M (SOP, 14-Leads, Body 5.1x4.5mm, Pitch 0.65mm, IPC Low Density)
footprint PW0014A_L (SOP, 14-Leads, Body 5.1x4.5mm, Pitch 0.65mm, IPC High Density)
part A pins: 1 K (out), 2 A (in), 3 B (in), 4 C (in), 5 D (in), 9 E (in), 10 F (in), 11 G (in), 12 H (in), 13 J (out)
part B pins: 6 NC, 7 VSS (power), 8 NC, 14 VDD (power)

## CD4078BPWR
designator U?
CMOS 8-Input NOR/OR Gate, PW0014A, LARGE T&R; Generic Part Number: CD4078B; Manufacturer: Texas Instruments; PartNumber: CD4078BPWR; VCC(Min)(V): 3; VCC(Max)(V): 18; Bits(#): 1; Rating: Catalog; tpd @ Nom Voltage(Max)(ns): 150; ICC @ Nom Voltage(Max)(mA): 0.015; F @ Nom Voltage(Max)(Mhz): 8; Voltage(Nom)(V): 10; Output Drive (IOL/IOH)(Max)(mA): 1.5/-1.5; DatasheetVersion: SCHS059C; PackageReference: PW0014A; Output Type: CMOS; Input Type: CMOS; Operating Temperature Range(C): -55 to 125; Code_JEDEC: MO-153; ComponentLink1Description: Manufacturer URL; ComponentLink1URL: http://www.ti.com/; ComponentLink2Description: Datasheet; ComponentLink2URL: http://www.ti.com/lit/ds/symlink/cd4078b.pdf; ComponentLink3Description: Package Specification; ComponentLink3URL: http://www.ti.com/lit/ml/mpds360/mpds360.pdf
footprint PW0014A_N (SOP, 14-Leads, Body 5.1x4.5mm, Pitch 0.65mm, IPC Medium Density)
footprint PW0014A_M (SOP, 14-Leads, Body 5.1x4.5mm, Pitch 0.65mm, IPC Low Density)
footprint PW0014A_L (SOP, 14-Leads, Body 5.1x4.5mm, Pitch 0.65mm, IPC High Density)
part A pins: 1 K (out), 2 A (in), 3 B (in), 4 C (in), 5 D (in), 9 E (in), 10 F (in), 11 G (in), 12 H (in), 13 J (out)
part B pins: 6 NC, 7 VSS (power), 8 NC, 14 VDD (power)

## CD4081BE
designator U?
CMOS Quad 2-Input AND Gate, N0014A, TUBE; Generic Part Number: CD4081B; Manufacturer: Texas Instruments; PartNumber: CD4081BE; VCC(Max)(V): 18; VCC(Min)(V): 3; ICC @ Nom Voltage(Max)(mA): 0.015; Bits(#): 4; F @ Nom Voltage(Max)(Mhz): 8; Rating: Military; Technology Family: CD4000; Voltage(Nom)(V): 10; Schmitt Trigger: No; Output Drive (IOL/IOH)(Max)(mA): -6.8/6.8; tpd @ Nom Voltage(Max)(ns): 12; DatasheetVersion: SCHS057C; PackageReference: N0014A; Supplier 1: Mouser; Supplier Part Number 1: 595-CD4081BE; Supplier 2: Digi-Key; Supplier Part Number 2: 296-2066-5-ND; Output Type: CMOS; Input Type: CMOS; Operating Temperature Range(C): -55 to 125; ComponentLink1Description: Manufacturer URL; ComponentLink1URL: http://www.ti.com/; ComponentLink2Description: Datasheet; ComponentLink2URL: http://www.ti.com/lit/ds/symlink/cd4081b.pdf
footprint N0014A (DIP, 14-Leads, Body 19.7x6.6mm, Pitch 2.54mm)
part A pins: 1 A (in), 2 B (in), 3 J (out)
part B pins: 4 K (out), 5 C (in), 6 D (in)
part C pins: 8 E (in), 9 F (in), 10 L (out)
part D pins: 11 M (out), 12 G (in), 13 H (in)
part E pins: 7 VSS (power), 14 VDD (power)

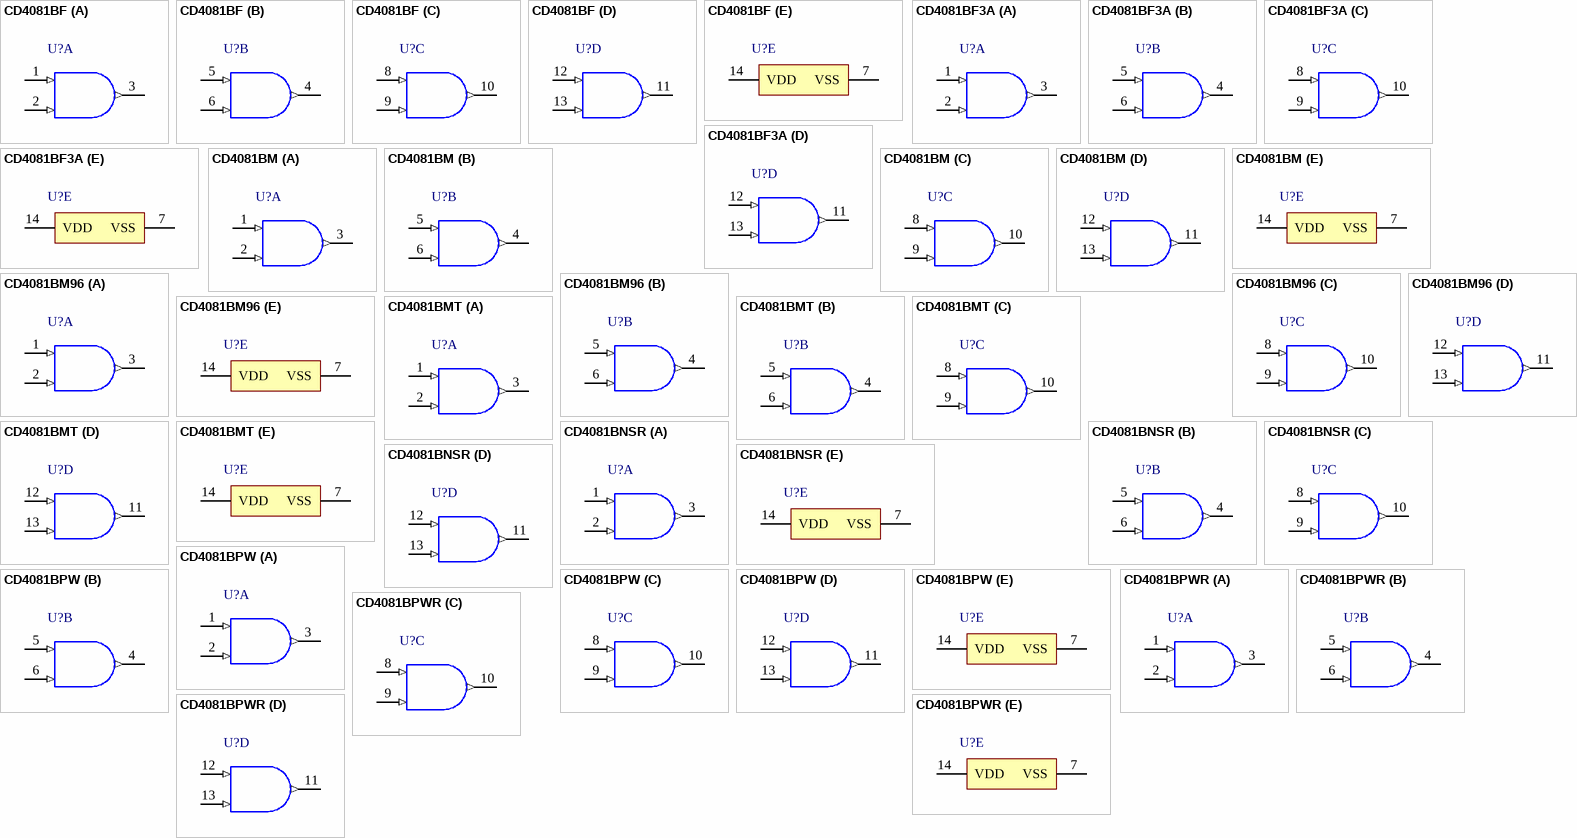
[diagram p46: symbols CD4081BF to CD4081BPWR]

## CD4081BF
designator U?
CMOS Quad 2-Input AND Gate, J0014A, TUBE; Generic Part Number: CD4081B-MIL; Manufacturer: Texas Instruments; PartNumber: CD4081BF; VCC(Max)(V): 18; VCC(Min)(V): 3; ICC @ Nom Voltage(Max)(mA): 0.015; Bits(#): 4; F @ Nom Voltage(Max)(Mhz): 8; Rating: Military; Technology Family: CD4000; Voltage(Nom)(V): 10; Schmitt Trigger: No; Output Drive (IOL/IOH)(Max)(mA): -1.5/1.5; tpd @ Nom Voltage(Max)(ns): 250; DatasheetVersion: SCHS057C; PackageReference: J0014A; Output Type: CMOS; Input Type: CMOS; Operating Temperature Range(C): -55 to 125; ComponentLink1Description: Manufacturer URL; ComponentLink1URL: http://www.ti.com/; ComponentLink2Description: Datasheet; ComponentLink2URL: http://www.ti.com/lit/ds/symlink/cd4081b-mil.pdf
footprint J0014A (DIP, 14-Leads, Body 19.95x7.2mm, Pitch 2.54mm)
part A pins: 1 A (in), 2 B (in), 3 J (out)
part B pins: 4 K (out), 5 C (in), 6 D (in)
part C pins: 8 E (in), 9 F (in), 10 L (out)
part D pins: 11 M (out), 12 G (in), 13 H (in)
part E pins: 7 VSS (power), 14 VDD (power)

## CD4081BF3A
designator U?
CMOS Quad 2-Input AND Gate, J0014A, TUBE; Generic Part Number: CD4081B-MIL; Manufacturer: Texas Instruments; PartNumber: CD4081BF3A; VCC(Max)(V): 18; VCC(Min)(V): 3; ICC @ Nom Voltage(Max)(mA): 0.015; Bits(#): 4; F @ Nom Voltage(Max)(Mhz): 8; Rating: Military; Technology Family: CD4000; Voltage(Nom)(V): 10; Schmitt Trigger: No; Output Drive (IOL/IOH)(Max)(mA): -1.5/1.5; tpd @ Nom Voltage(Max)(ns): 250; DatasheetVersion: SCHS057C; PackageReference: J0014A; Output Type: CMOS; Input Type: CMOS; Operating Temperature Range(C): -55 to 125; ComponentLink1Description: Manufacturer URL; ComponentLink1URL: http://www.ti.com/; ComponentLink2Description: Datasheet; ComponentLink2URL: http://www.ti.com/lit/ds/symlink/cd4081b-mil.pdf
footprint J0014A (DIP, 14-Leads, Body 19.95x7.2mm, Pitch 2.54mm)
part A pins: 1 A (in), 2 B (in), 3 J (out)
part B pins: 4 K (out), 5 C (in), 6 D (in)
part C pins: 8 E (in), 9 F (in), 10 L (out)
part D pins: 11 M (out), 12 G (in), 13 H (in)
part E pins: 7 VSS (power), 14 VDD (power)

## CD4081BM
designator U?
CMOS Quad 2-Input AND Gate, D0014A, TUBE; Generic Part Number: CD4081B; Manufacturer: Texas Instruments; PartNumber: CD4081BM; VCC(Max)(V): 18; VCC(Min)(V): 3; ICC @ Nom Voltage(Max)(mA): 0.015; Bits(#): 4; F @ Nom Voltage(Max)(Mhz): 8; Rating: Military; Technology Family: CD4000; Voltage(Nom)(V): 10; Schmitt Trigger: No; Output Drive (IOL/IOH)(Max)(mA): -6.8/6.8; tpd @ Nom Voltage(Max)(ns): 12; DatasheetVersion: SCHS057C; PackageReference: D0014A; Supplier 1: Mouser; Supplier Part Number 1: 595-CD4081BM; Supplier 2: Digi-Key; Supplier Part Number 2: 296-14280-5-ND; Output Type: CMOS; Input Type: CMOS; Operating Temperature Range(C): -55 to 125; ComponentLink1Description: Manufacturer URL; ComponentLink1URL: http://www.ti.com/; ComponentLink2Description: Datasheet; ComponentLink2URL: http://www.ti.com/lit/ds/symlink/cd4081b.pdf
footprint D0014A_N (SOIC, 14-Leads, Body 8.75x4mm, Pitch 1.27mm, IPC Medium Density)
footprint D0014A_M (SOIC, 14-Leads, Body 8.75x4mm, Pitch 1.27mm, IPC Low Density)
footprint D0014A_L (SOIC, 14-Leads, Body 8.75x4mm, Pitch 1.27mm, IPC High Density)
part A pins: 1 A (in), 2 B (in), 3 J (out)
part B pins: 4 K (out), 5 C (in), 6 D (in)
part C pins: 8 E (in), 9 F (in), 10 L (out)
part D pins: 11 M (out), 12 G (in), 13 H (in)
part E pins: 7 VSS (power), 14 VDD (power)

## CD4081BM96
designator U?
CMOS Quad 2-Input AND Gate, D0014A, LARGE T&R; Generic Part Number: CD4081B; Manufacturer: Texas Instruments; PartNumber: CD4081BM96; VCC(Max)(V): 18; VCC(Min)(V): 3; ICC @ Nom Voltage(Max)(mA): 0.015; Bits(#): 4; F @ Nom Voltage(Max)(Mhz): 8; Rating: Military; Technology Family: CD4000; Voltage(Nom)(V): 10; Schmitt Trigger: No; Output Drive (IOL/IOH)(Max)(mA): -6.8/6.8; tpd @ Nom Voltage(Max)(ns): 12; DatasheetVersion: SCHS057C; PackageReference: D0014A; Supplier 1: Mouser; Supplier Part Number 1: 595-CD4081BM96; Supplier 2: Digi-Key; Supplier Part Number 2: 296-25955-2-ND; Supplier 3: Digi-Key; Supplier Part Number 3: 296-25955-1-ND; Supplier 4: Digi-Key; Supplier Part Number 4: 296-25955-6-ND; Output Type: CMOS; Input Type: CMOS; Operating Temperature Range(C): -55 to 125; ComponentLink1Description: Manufacturer URL; ComponentLink1URL: http://www.ti.com/; ComponentLink2Description: Datasheet; ComponentLink2URL: http://www.ti.com/lit/ds/symlink/cd4081b.pdf
footprint D0014A_N (SOIC, 14-Leads, Body 8.75x4mm, Pitch 1.27mm, IPC Medium Density)
footprint D0014A_M (SOIC, 14-Leads, Body 8.75x4mm, Pitch 1.27mm, IPC Low Density)
footprint D0014A_L (SOIC, 14-Leads, Body 8.75x4mm, Pitch 1.27mm, IPC High Density)
part A pins: 1 A (in), 2 B (in), 3 J (out)
part B pins: 4 K (out), 5 C (in), 6 D (in)
part C pins: 8 E (in), 9 F (in), 10 L (out)
part D pins: 11 M (out), 12 G (in), 13 H (in)
part E pins: 7 VSS (power), 14 VDD (power)

## CD4081BMT
designator U?
CMOS Quad 2-Input AND Gate, D0014A, SMALL T&R; Generic Part Number: CD4081B; Manufacturer: Texas Instruments; PartNumber: CD4081BMT; VCC(Max)(V): 18; VCC(Min)(V): 3; ICC @ Nom Voltage(Max)(mA): 0.015; Bits(#): 4; F @ Nom Voltage(Max)(Mhz): 8; Rating: Military; Technology Family: CD4000; Voltage(Nom)(V): 10; Schmitt Trigger: No; Output Drive (IOL/IOH)(Max)(mA): -6.8/6.8; tpd @ Nom Voltage(Max)(ns): 12; DatasheetVersion: SCHS057C; PackageReference: D0014A; Supplier 1: Mouser; Supplier Part Number 1: 595-CD4081BMT; Supplier 2: Digi-Key; Supplier Part Number 2: 296-41411-2-ND; Supplier 3: Digi-Key; Supplier Part Number 3: 296-41411-1-ND; Supplier 4: Digi-Key; Supplier Part Number 4: 296-41411-6-ND; Output Type: CMOS; Input Type: CMOS; Operating Temperature Range(C): -55 to 125; ComponentLink1Description: Manufacturer URL; ComponentLink1URL: http://www.ti.com/; ComponentLink2Description: Datasheet; ComponentLink2URL: http://www.ti.com/lit/ds/symlink/cd4081b.pdf
footprint D0014A_N (SOIC, 14-Leads, Body 8.75x4mm, Pitch 1.27mm, IPC Medium Density)
footprint D0014A_M (SOIC, 14-Leads, Body 8.75x4mm, Pitch 1.27mm, IPC Low Density)
footprint D0014A_L (SOIC, 14-Leads, Body 8.75x4mm, Pitch 1.27mm, IPC High Density)
part A pins: 1 A (in), 2 B (in), 3 J (out)
part B pins: 4 K (out), 5 C (in), 6 D (in)
part C pins: 8 E (in), 9 F (in), 10 L (out)
part D pins: 11 M (out), 12 G (in), 13 H (in)
part E pins: 7 VSS (power), 14 VDD (power)

## CD4081BNSR
designator U?
CMOS Quad 2-Input AND Gate, NS0014A, LARGE T&R; Generic Part Number: CD4081B; Manufacturer: Texas Instruments; PartNumber: CD4081BNSR; VCC(Max)(V): 18; VCC(Min)(V): 3; ICC @ Nom Voltage(Max)(mA): 0.015; Bits(#): 4; F @ Nom Voltage(Max)(Mhz): 8; Rating: Military; Technology Family: CD4000; Voltage(Nom)(V): 10; Schmitt Trigger: No; Output Drive (IOL/IOH)(Max)(mA): -6.8/6.8; tpd @ Nom Voltage(Max)(ns): 12; DatasheetVersion: SCHS057C; PackageReference: NS0014A; Supplier 1: Mouser; Supplier Part Number 1: 595-CD4081BNSR; Supplier 2: Digi-Key; Supplier Part Number 2: 296-14140-2-ND; Supplier 3: Digi-Key; Supplier Part Number 3: 296-14140-1-ND; Supplier 4: Digi-Key; Supplier Part Number 4: 296-14140-6-ND; Output Type: CMOS; Input Type: CMOS; Operating Temperature Range(C): -55 to 125; ComponentLink1Description: Manufacturer URL; ComponentLink1URL: http://www.ti.com/; ComponentLink2Description: Datasheet; ComponentLink2URL: http://www.ti.com/lit/ds/symlink/cd4081b.pdf
footprint NS0014A_N (SOIC,14-Leads,Body 10.5x5.6mm,Pitch 1.27mm,IPC Medium Density)
footprint NS0014A_M (SOIC,14-Leads,Body 10.5x5.6mm,Pitch 1.27mm,IPC Low Density)
footprint NS0014A_L (SOIC,14-Leads,Body 10.5x5.6mm,Pitch 0.4mm,IPC High Density)
part A pins: 1 A (in), 2 B (in), 3 J (out)
part B pins: 4 K (out), 5 C (in), 6 D (in)
part C pins: 8 E (in), 9 F (in), 10 L (out)
part D pins: 11 M (out), 12 G (in), 13 H (in)
part E pins: 7 VSS (power), 14 VDD (power)

## CD4081BPW
designator U?
CMOS Quad 2-Input AND Gate, PW0014A, TUBE; Generic Part Number: CD4081B; Manufacturer: Texas Instruments; PartNumber: CD4081BPW; VCC(Max)(V): 18; VCC(Min)(V): 3; ICC @ Nom Voltage(Max)(mA): 0.015; Bits(#): 4; F @ Nom Voltage(Max)(Mhz): 8; Rating: Military; Technology Family: CD4000; Voltage(Nom)(V): 10; Schmitt Trigger: No; Output Drive (IOL/IOH)(Max)(mA): -6.8/6.8; tpd @ Nom Voltage(Max)(ns): 12; DatasheetVersion: SCHS057C; PackageReference: PW0014A; Supplier 1: Mouser; Supplier Part Number 1: 595-CD4081BPW; Supplier 2: Digi-Key; Supplier Part Number 2: 296-32912-5-ND; Output Type: CMOS; Input Type: CMOS; Operating Temperature Range(C): -55 to 125; ComponentLink1Description: Manufacturer URL; ComponentLink1URL: http://www.ti.com/; ComponentLink2Description: Datasheet; ComponentLink2URL: http://www.ti.com/lit/ds/symlink/cd4081b.pdf
footprint PW0014A_N (SOP, 14-Leads, Body 5.1x4.5mm, Pitch 0.65mm, IPC Medium Density)
footprint PW0014A_M (SOP, 14-Leads, Body 5.1x4.5mm, Pitch 0.65mm, IPC Low Density)
footprint PW0014A_L (SOP, 14-Leads, Body 5.1x4.5mm, Pitch 0.65mm, IPC High Density)
part A pins: 1 A (in), 2 B (in), 3 J (out)
part B pins: 4 K (out), 5 C (in), 6 D (in)
part C pins: 8 E (in), 9 F (in), 10 L (out)
part D pins: 11 M (out), 12 G (in), 13 H (in)
part E pins: 7 VSS (power), 14 VDD (power)

## CD4081BPWR
designator U?
CMOS Quad 2-Input AND Gate, PW0014A, LARGE T&R; Generic Part Number: CD4081B; Manufacturer: Texas Instruments; PartNumber: CD4081BPWR; VCC(Max)(V): 18; VCC(Min)(V): 3; ICC @ Nom Voltage(Max)(mA): 0.015; Bits(#): 4; F @ Nom Voltage(Max)(Mhz): 8; Rating: Military; Technology Family: CD4000; Voltage(Nom)(V): 10; Schmitt Trigger: No; Output Drive (IOL/IOH)(Max)(mA): -6.8/6.8; tpd @ Nom Voltage(Max)(ns): 12; DatasheetVersion: SCHS057C; PackageReference: PW0014A; Supplier 1: Mouser; Supplier Part Number 1: 595-CD4081BPWR; Supplier 2: Digi-Key; Supplier Part Number 2: 296-14141-2-ND; Supplier 3: Digi-Key; Supplier Part Number 3: 296-14141-1-ND; Supplier 4: Digi-Key; Supplier Part Number 4: 296-14141-6-ND; Output Type: CMOS; Input Type: CMOS; Operating Temperature Range(C): -55 to 125; ComponentLink1Description: Manufacturer URL; ComponentLink1URL: http://www.ti.com/; ComponentLink2Description: Datasheet; ComponentLink2URL: http://www.ti.com/lit/ds/symlink/cd4081b.pdf
footprint PW0014A_N (SOP, 14-Leads, Body 5.1x4.5mm, Pitch 0.65mm, IPC Medium Density)
footprint PW0014A_M (SOP, 14-Leads, Body 5.1x4.5mm, Pitch 0.65mm, IPC Low Density)
footprint PW0014A_L (SOP, 14-Leads, Body 5.1x4.5mm, Pitch 0.65mm, IPC High Density)
part A pins: 1 A (in), 2 B (in), 3 J (out)
part B pins: 4 K (out), 5 C (in), 6 D (in)
part C pins: 8 E (in), 9 F (in), 10 L (out)
part D pins: 11 M (out), 12 G (in), 13 H (in)
part E pins: 7 VSS (power), 14 VDD (power)

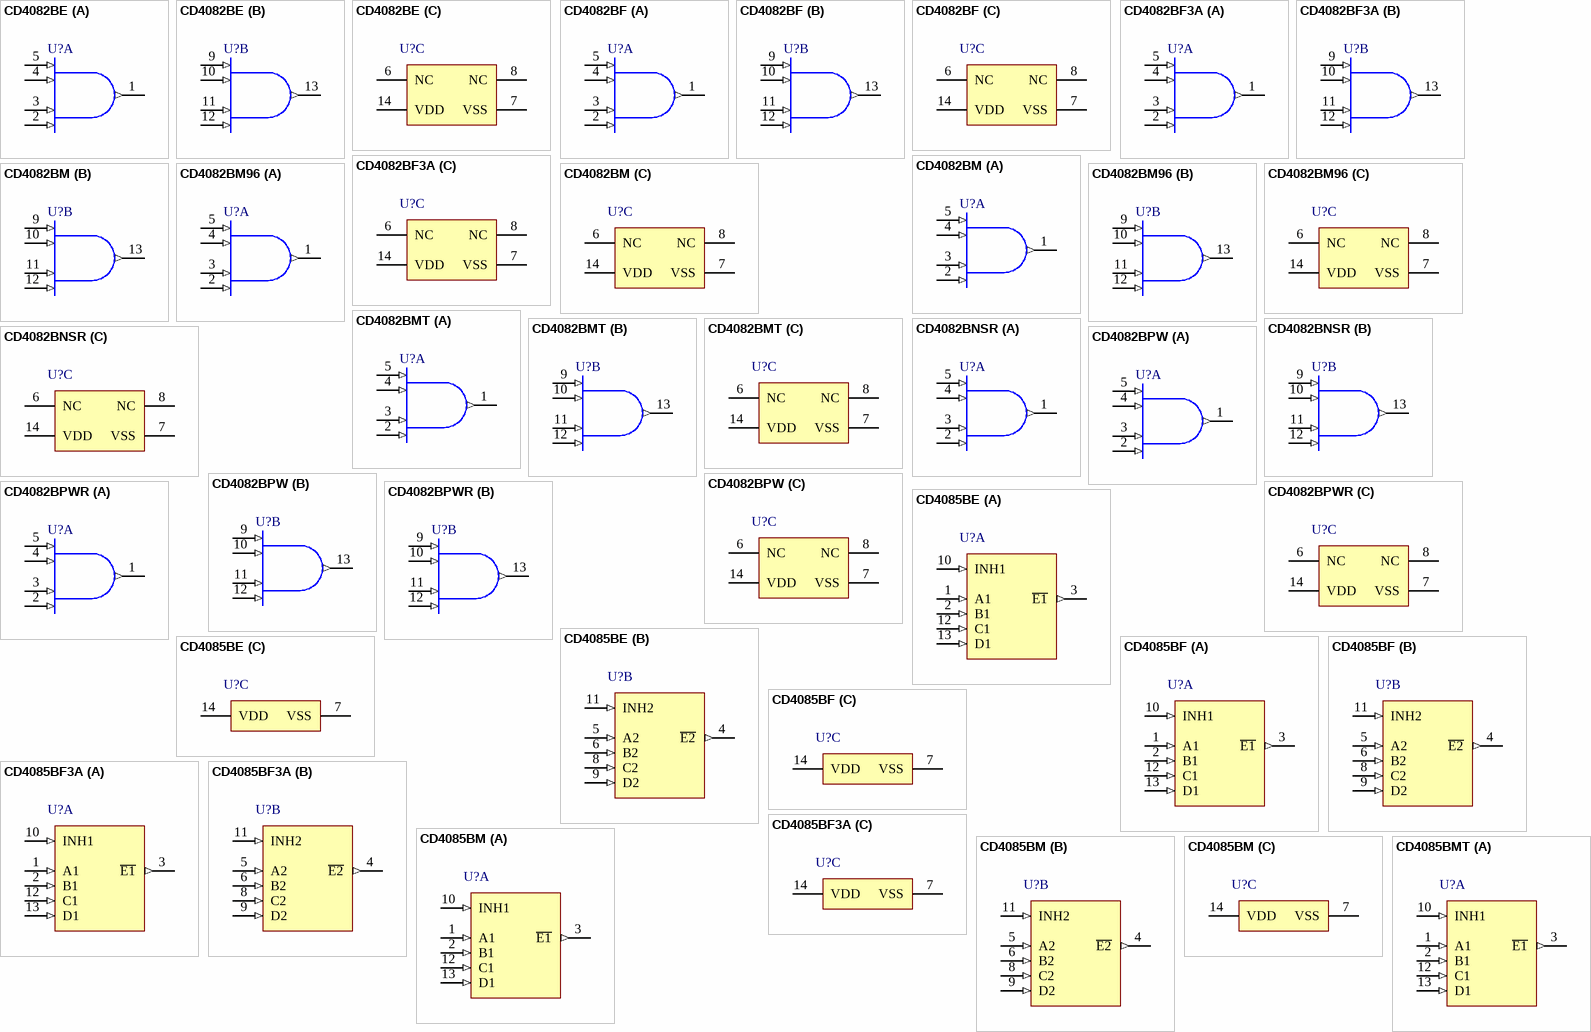
[diagram p47: symbols CD4082BE to CD4085BMT]

## CD4082BE
designator U?
CMOS Dual 4-Input AND Gate, N0014A, TUBE; Generic Part Number: CD4082B; Manufacturer: Texas Instruments; PartNumber: CD4082BE; VCC(Max)(V): 18; VCC(Min)(V): 3; ICC @ Nom Voltage(Max)(mA): 0.015; Bits(#): 2; F @ Nom Voltage(Max)(Mhz): 8; Rating: Catalog; Technology Family: CD4000; Voltage(Nom)(V): 10; Schmitt Trigger: No; Output Drive (IOL/IOH)(Max)(mA): -6.8/6.8; tpd @ Nom Voltage(Max)(ns): 120; DatasheetVersion: SCHS057C; PackageReference: N0014A; Supplier 1: Mouser; Supplier Part Number 1: 595-CD4082BE; Supplier 2: Digi-Key; Supplier Part Number 2: 296-2067-5-ND; Output Type: CMOS; Input Type: CMOS; Operating Temperature Range(C): -55 to 125; ComponentLink1Description: Manufacturer URL; ComponentLink1URL: http://www.ti.com/; ComponentLink2Description: Datasheet; ComponentLink2URL: http://www.ti.com/lit/ds/symlink/cd4082b.pdf
footprint N0014A (DIP, 14-Leads, Body 19.7x6.6mm, Pitch 2.54mm)
part A pins: 1 J (out), 2 D (in), 3 C (in), 4 B (in), 5 A (in)
part B pins: 9 E (in), 10 F (in), 11 G (in), 12 H (in), 13 K (out)
part C pins: 6 NC, 7 VSS (power), 8 NC, 14 VDD (power)

## CD4082BF
designator U?
CMOS Dual 4-Input AND Gate, J0014A, TUBE; Generic Part Number: CD4082B-MIL; Manufacturer: Texas Instruments; PartNumber: CD4082BF; VCC(Max)(V): 18; VCC(Min)(V): 3; ICC @ Nom Voltage(Max)(mA): 0.015; Bits(#): 2; F @ Nom Voltage(Max)(Mhz): 8; Rating: Military; Technology Family: CD4000; Voltage(Nom)(V): 10; Schmitt Trigger: No; Output Drive (IOL/IOH)(Max)(mA): -1.5/1.5; tpd @ Nom Voltage(Max)(ns): 250; DatasheetVersion: SCHS057C; PackageReference: J0014A; Output Type: CMOS; Input Type: CMOS; Operating Temperature Range(C): -55 to 125; ComponentLink1Description: Manufacturer URL; ComponentLink1URL: http://www.ti.com/; ComponentLink2Description: Datasheet; ComponentLink2URL: http://www.ti.com/lit/ds/symlink/cd4082b-mil.pdf
footprint J0014A (DIP, 14-Leads, Body 19.95x7.2mm, Pitch 2.54mm)
part A pins: 1 J (out), 2 D (in), 3 C (in), 4 B (in), 5 A (in)
part B pins: 9 E (in), 10 F (in), 11 G (in), 12 H (in), 13 K (out)
part C pins: 6 NC, 7 VSS (power), 8 NC, 14 VDD (power)

## CD4082BF3A
designator U?
CMOS Dual 4-Input AND Gate, J0014A, TUBE; Generic Part Number: CD4082B-MIL; Manufacturer: Texas Instruments; PartNumber: CD4082BF3A; VCC(Max)(V): 18; VCC(Min)(V): 3; ICC @ Nom Voltage(Max)(mA): 0.015; Bits(#): 2; F @ Nom Voltage(Max)(Mhz): 8; Rating: Military; Technology Family: CD4000; Voltage(Nom)(V): 10; Schmitt Trigger: No; Output Drive (IOL/IOH)(Max)(mA): -1.5/1.5; tpd @ Nom Voltage(Max)(ns): 250; DatasheetVersion: SCHS057C; PackageReference: J0014A; Output Type: CMOS; Input Type: CMOS; Operating Temperature Range(C): -55 to 125; ComponentLink1Description: Manufacturer URL; ComponentLink1URL: http://www.ti.com/; ComponentLink2Description: Datasheet; ComponentLink2URL: http://www.ti.com/lit/ds/symlink/cd4082b-mil.pdf
footprint J0014A (DIP, 14-Leads, Body 19.95x7.2mm, Pitch 2.54mm)
part A pins: 1 J (out), 2 D (in), 3 C (in), 4 B (in), 5 A (in)
part B pins: 9 E (in), 10 F (in), 11 G (in), 12 H (in), 13 K (out)
part C pins: 6 NC, 7 VSS (power), 8 NC, 14 VDD (power)